# Altium footprint library Connector_Molex.PcbLib: 815 footprints (part 33 of 51)
Each footprint in its own frame and in the unit in brackets; x right, y up, seen from the top. Pads: shape width x height; smd on the part's side, far side on the other; paste and mask are expansions set on the pad; w line width, h text height; cw(c..) or ccw(c..) is an arc to the next point about the centre after c.
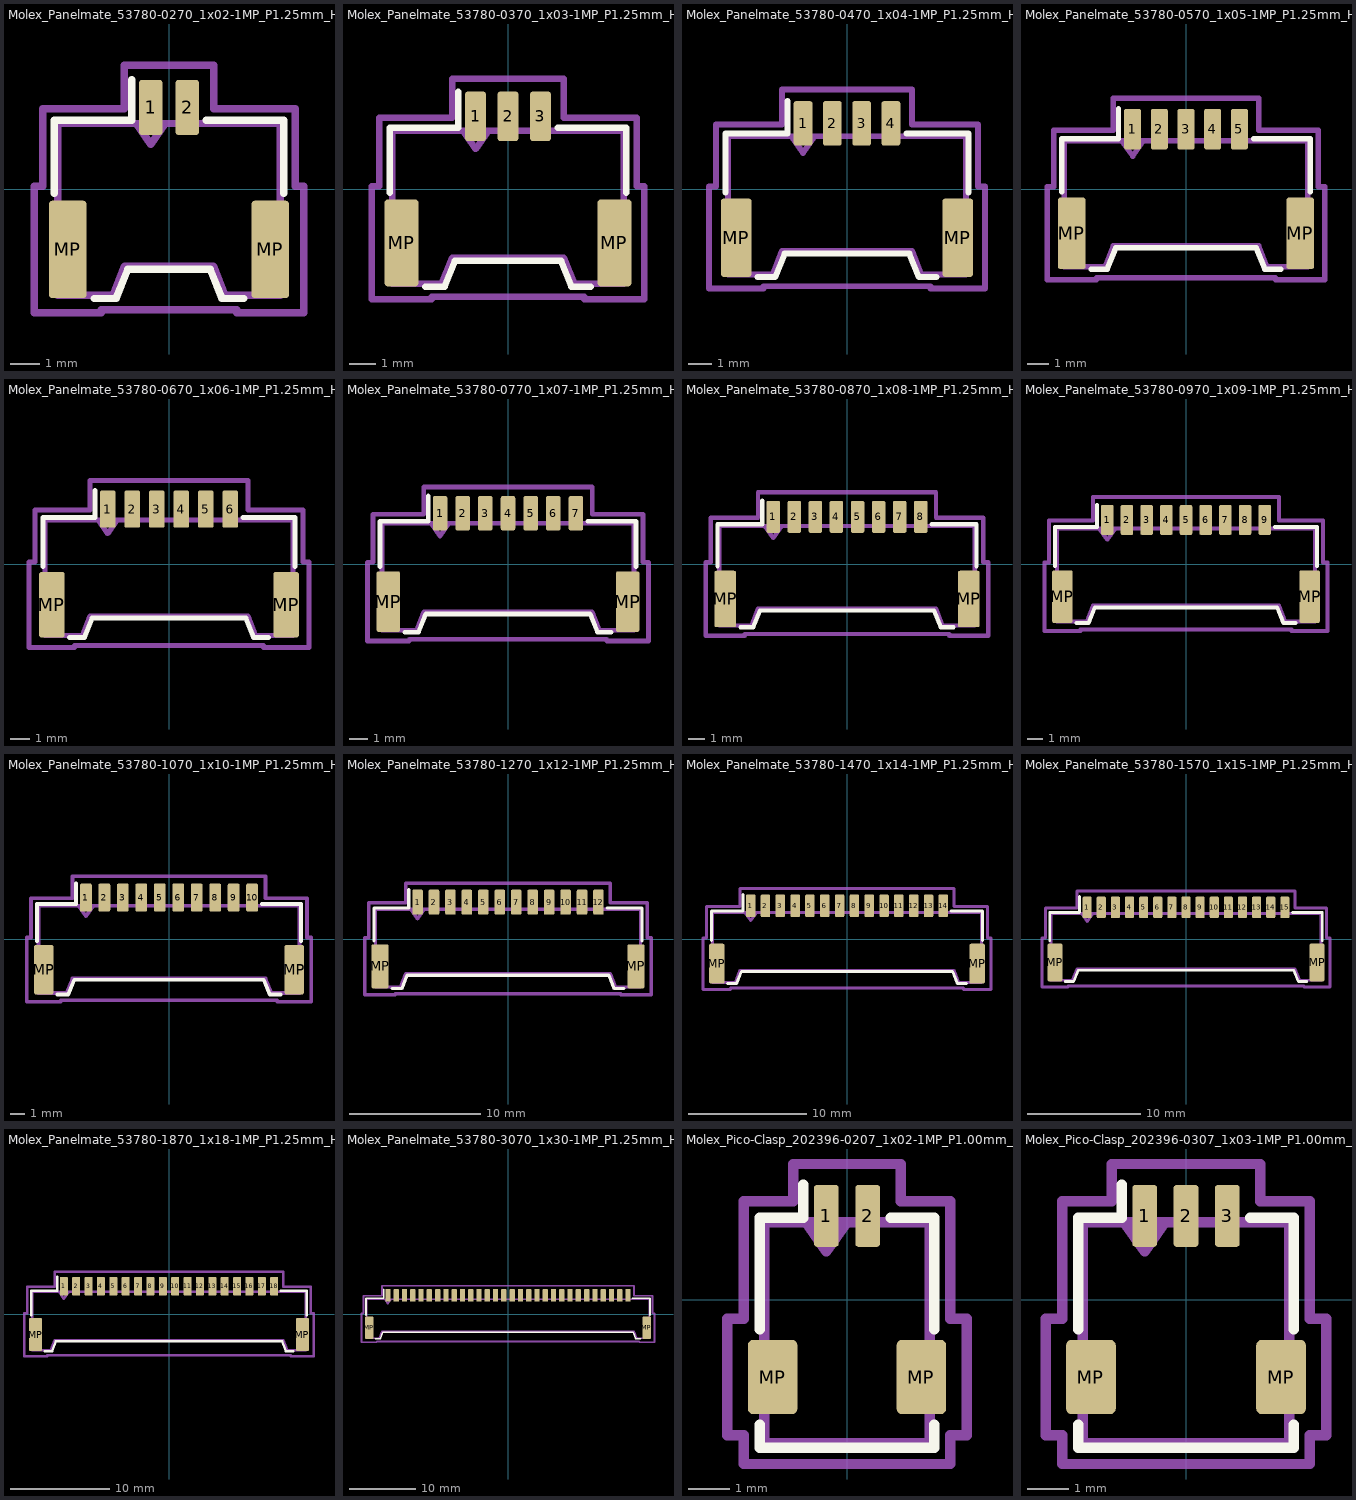
[diagram p32: the footprints below, top view; thin cyan lines are the x and y axes]

## Molex_Panelmate_53780-0270_1x02-1MP_P1.25mm_Horizontal [mm]
pads (4):
  rrect25% 0.8x1.9 smd: 1(-0.625,2.8) 2(0.625,2.8)
  rrect19% 1.3x3.35 smd: MP(-3.475,-2.075) MP(3.475,-2.075)
F.SilkS:
  lines w0.254: -3.935,-0.14 -3.935,2.36 -1.285,2.36 -1.285,3.75 ; -2.565,-3.76 -1.815,-3.76 -1.415,-2.76 1.415,-2.76 1.815,-3.76 2.565,-3.76 ; 1.285,2.36 3.935,2.36 3.935,-0.14
Top Assembly:
  lines w0.254: -1.125,2.25 -0.625,1.543 -0.125,2.25 ; -3.825,-3.65 -1.925,-3.65 -1.525,-2.65 1.525,-2.65 1.925,-3.65 3.825,-3.65 3.825,2.25 -3.825,2.25 -3.825,-3.65
  text "'.Designator'" at -4.047,-1.54 h1
Top Courtyard:
  lines w0.254: -4.63,-4.25 -2.32,-4.25 -2.32,-4.15 2.32,-4.15 2.32,-4.25 4.63,-4.25 4.63,0.1 4.33,0.1 4.33,2.75 1.53,2.75 1.53,4.25 -1.53,4.25 -1.53,2.75 -4.33,2.75 -4.33,0.1 -4.63,0.1 -4.63,-4.25
Top Designator:
  text ".Designator" at -7.618,-0.508 h1.52

## Molex_Panelmate_53780-0370_1x03-1MP_P1.25mm_Horizontal [mm]
pads (5):
  rrect25% 0.8x1.9 smd: 1(-1.25,2.8) 2(0,2.8) 3(1.25,2.8)
  rrect19% 1.3x3.35 smd: MP(-4.1,-2.075) MP(4.1,-2.075)
F.SilkS:
  lines w0.254: -4.56,-0.14 -4.56,2.36 -1.91,2.36 -1.91,3.75 ; -3.19,-3.76 -2.44,-3.76 -2.04,-2.76 2.04,-2.76 2.44,-3.76 3.19,-3.76 ; 1.91,2.36 4.56,2.36 4.56,-0.14
Top Assembly:
  lines w0.254: -1.75,2.25 -1.25,1.543 -0.75,2.25 ; -4.45,-3.65 -2.55,-3.65 -2.15,-2.65 2.15,-2.65 2.55,-3.65 4.45,-3.65 4.45,2.25 -4.45,2.25 -4.45,-3.65
  text "'.Designator'" at -4.047,-1.54 h1
Top Courtyard:
  lines w0.254: -5.25,-4.25 -2.94,-4.25 -2.94,-4.15 2.94,-4.15 2.94,-4.25 5.25,-4.25 5.25,0.1 4.95,0.1 4.95,2.75 2.15,2.75 2.15,4.25 -2.15,4.25 -2.15,2.75 -4.95,2.75 -4.95,0.1 -5.25,0.1 -5.25,-4.25
Top Designator:
  text ".Designator" at -7.618,-0.508 h1.52

## Molex_Panelmate_53780-0470_1x04-1MP_P1.25mm_Horizontal [mm]
pads (6):
  rrect25% 0.8x1.9 smd: 1(-1.875,2.8) 2(-0.625,2.8) 3(0.625,2.8) 4(1.875,2.8)
  rrect19% 1.3x3.35 smd: MP(-4.725,-2.075) MP(4.725,-2.075)
F.SilkS:
  lines w0.254: -5.185,-0.14 -5.185,2.36 -2.535,2.36 -2.535,3.75 ; -3.815,-3.76 -3.065,-3.76 -2.665,-2.76 2.665,-2.76 3.065,-3.76 3.815,-3.76 ; 2.535,2.36 5.185,2.36 5.185,-0.14
Top Assembly:
  lines w0.254: -2.375,2.25 -1.875,1.543 -1.375,2.25 ; -5.075,-3.65 -3.175,-3.65 -2.775,-2.65 2.775,-2.65 3.175,-3.65 5.075,-3.65 5.075,2.25 -5.075,2.25 -5.075,-3.65
  text "'.Designator'" at -4.047,-1.54 h1
Top Courtyard:
  lines w0.254: -5.88,-4.25 -3.57,-4.25 -3.57,-4.15 3.57,-4.15 3.57,-4.25 5.88,-4.25 5.88,0.1 5.58,0.1 5.58,2.75 2.78,2.75 2.78,4.25 -2.78,4.25 -2.78,2.75 -5.58,2.75 -5.58,0.1 -5.88,0.1 -5.88,-4.25
Top Designator:
  text ".Designator" at -7.618,-0.508 h1.52

## Molex_Panelmate_53780-0570_1x05-1MP_P1.25mm_Horizontal [mm]
pads (7):
  rrect25% 0.8x1.9 smd: 1(-2.5,2.8) 2(-1.25,2.8) 3(0,2.8) 4(1.25,2.8) 5(2.5,2.8)
  rrect19% 1.3x3.35 smd: MP(-5.35,-2.075) MP(5.35,-2.075)
F.SilkS:
  lines w0.254: -5.81,-0.14 -5.81,2.36 -3.16,2.36 -3.16,3.75 ; -4.44,-3.76 -3.69,-3.76 -3.29,-2.76 3.29,-2.76 3.69,-3.76 4.44,-3.76 ; 3.16,2.36 5.81,2.36 5.81,-0.14
Top Assembly:
  lines w0.254: -3,2.25 -2.5,1.543 -2,2.25 ; -5.7,-3.65 -3.8,-3.65 -3.4,-2.65 3.4,-2.65 3.8,-3.65 5.7,-3.65 5.7,2.25 -5.7,2.25 -5.7,-3.65
  text "'.Designator'" at -4.047,-1.54 h1
Top Courtyard:
  lines w0.254: -6.5,-4.25 -4.19,-4.25 -4.19,-4.15 4.19,-4.15 4.19,-4.25 6.5,-4.25 6.5,0.1 6.2,0.1 6.2,2.75 3.4,2.75 3.4,4.25 -3.4,4.25 -3.4,2.75 -6.2,2.75 -6.2,0.1 -6.5,0.1 -6.5,-4.25
Top Designator:
  text ".Designator" at -7.618,-0.508 h1.52

## Molex_Panelmate_53780-0670_1x06-1MP_P1.25mm_Horizontal [mm]
pads (8):
  rrect25% 0.8x1.9 smd: 1(-3.125,2.8) 2(-1.875,2.8) 3(-0.625,2.8) 4(0.625,2.8) 5(1.875,2.8) 6(3.125,2.8)
  rrect19% 1.3x3.35 smd: MP(-5.975,-2.075) MP(5.975,-2.075)
F.SilkS:
  lines w0.254: -6.435,-0.14 -6.435,2.36 -3.785,2.36 -3.785,3.75 ; -5.065,-3.76 -4.315,-3.76 -3.915,-2.76 3.915,-2.76 4.315,-3.76 5.065,-3.76 ; 3.785,2.36 6.435,2.36 6.435,-0.14
Top Assembly:
  lines w0.254: -3.625,2.25 -3.125,1.543 -2.625,2.25 ; -6.325,-3.65 -4.425,-3.65 -4.025,-2.65 4.025,-2.65 4.425,-3.65 6.325,-3.65 6.325,2.25 -6.325,2.25 -6.325,-3.65
  text "'.Designator'" at -4.047,-1.54 h1
Top Courtyard:
  lines w0.254: -7.13,-4.25 -4.82,-4.25 -4.82,-4.15 4.82,-4.15 4.82,-4.25 7.13,-4.25 7.13,0.1 6.83,0.1 6.83,2.75 4.03,2.75 4.03,4.25 -4.03,4.25 -4.03,2.75 -6.83,2.75 -6.83,0.1 -7.13,0.1 -7.13,-4.25
Top Designator:
  text ".Designator" at -7.618,-0.508 h1.52

## Molex_Panelmate_53780-0770_1x07-1MP_P1.25mm_Horizontal [mm]
pads (9):
  rrect25% 0.8x1.9 smd: 1(-3.75,2.8) 2(-2.5,2.8) 3(-1.25,2.8) 4(0,2.8) 5(1.25,2.8) 6(2.5,2.8) 7(3.75,2.8)
  rrect19% 1.3x3.35 smd: MP(-6.6,-2.075) MP(6.6,-2.075)
F.SilkS:
  lines w0.254: -7.06,-0.14 -7.06,2.36 -4.41,2.36 -4.41,3.75 ; -5.69,-3.76 -4.94,-3.76 -4.54,-2.76 4.54,-2.76 4.94,-3.76 5.69,-3.76 ; 4.41,2.36 7.06,2.36 7.06,-0.14
Top Assembly:
  lines w0.254: -4.25,2.25 -3.75,1.543 -3.25,2.25 ; -6.95,-3.65 -5.05,-3.65 -4.65,-2.65 4.65,-2.65 5.05,-3.65 6.95,-3.65 6.95,2.25 -6.95,2.25 -6.95,-3.65
  text "'.Designator'" at -4.047,-1.54 h1
Top Courtyard:
  lines w0.254: -7.75,-4.25 -5.44,-4.25 -5.44,-4.15 5.44,-4.15 5.44,-4.25 7.75,-4.25 7.75,0.1 7.45,0.1 7.45,2.75 4.65,2.75 4.65,4.25 -4.65,4.25 -4.65,2.75 -7.45,2.75 -7.45,0.1 -7.75,0.1 -7.75,-4.25
Top Designator:
  text ".Designator" at -7.618,-0.508 h1.52

## Molex_Panelmate_53780-0870_1x08-1MP_P1.25mm_Horizontal [mm]
pads (10):
  rrect25% 0.8x1.9 smd: 1(-4.375,2.8) 2(-3.125,2.8) 3(-1.875,2.8) 4(-0.625,2.8) 5(0.625,2.8) 6(1.875,2.8) 7(3.125,2.8) 8(4.375,2.8)
  rrect19% 1.3x3.35 smd: MP(-7.225,-2.075) MP(7.225,-2.075)
F.SilkS:
  lines w0.254: -7.685,-0.14 -7.685,2.36 -5.035,2.36 -5.035,3.75 ; -6.315,-3.76 -5.565,-3.76 -5.165,-2.76 5.165,-2.76 5.565,-3.76 6.315,-3.76 ; 5.035,2.36 7.685,2.36 7.685,-0.14
Top Assembly:
  lines w0.254: -4.875,2.25 -4.375,1.543 -3.875,2.25 ; -7.575,-3.65 -5.675,-3.65 -5.275,-2.65 5.275,-2.65 5.675,-3.65 7.575,-3.65 7.575,2.25 -7.575,2.25 -7.575,-3.65
  text "'.Designator'" at -4.047,-1.54 h1
Top Courtyard:
  lines w0.254: -8.38,-4.25 -6.07,-4.25 -6.07,-4.15 6.07,-4.15 6.07,-4.25 8.38,-4.25 8.38,0.1 8.08,0.1 8.08,2.75 5.28,2.75 5.28,4.25 -5.28,4.25 -5.28,2.75 -8.08,2.75 -8.08,0.1 -8.38,0.1 -8.38,-4.25
Top Designator:
  text ".Designator" at -7.618,-0.508 h1.52

## Molex_Panelmate_53780-0970_1x09-1MP_P1.25mm_Horizontal [mm]
pads (11):
  rrect25% 0.8x1.9 smd: 1(-5,2.8) 2(-3.75,2.8) 3(-2.5,2.8) 4(-1.25,2.8) 5(0,2.8) 6(1.25,2.8) 7(2.5,2.8) 8(3.75,2.8) 9(5,2.8)
  rrect19% 1.3x3.35 smd: MP(-7.85,-2.075) MP(7.85,-2.075)
F.SilkS:
  lines w0.254: -8.31,-0.14 -8.31,2.36 -5.66,2.36 -5.66,3.75 ; -6.94,-3.76 -6.19,-3.76 -5.79,-2.76 5.79,-2.76 6.19,-3.76 6.94,-3.76 ; 5.66,2.36 8.31,2.36 8.31,-0.14
Top Assembly:
  lines w0.254: -5.5,2.25 -5,1.543 -4.5,2.25 ; -8.2,-3.65 -6.3,-3.65 -5.9,-2.65 5.9,-2.65 6.3,-3.65 8.2,-3.65 8.2,2.25 -8.2,2.25 -8.2,-3.65
  text "'.Designator'" at -4.047,-1.54 h1
Top Courtyard:
  lines w0.254: -9,-4.25 -6.69,-4.25 -6.69,-4.15 6.69,-4.15 6.69,-4.25 9,-4.25 9,0.1 8.7,0.1 8.7,2.75 5.9,2.75 5.9,4.25 -5.9,4.25 -5.9,2.75 -8.7,2.75 -8.7,0.1 -9,0.1 -9,-4.25
Top Designator:
  text ".Designator" at -7.618,-0.508 h1.52

## Molex_Panelmate_53780-1070_1x10-1MP_P1.25mm_Horizontal [mm]
pads (12):
  rrect25% 0.8x1.9 smd: 1(-5.625,2.8) 2(-4.375,2.8) 3(-3.125,2.8) 4(-1.875,2.8) 5(-0.625,2.8) 6(0.625,2.8) 7(1.875,2.8) 8(3.125,2.8) 9(4.375,2.8) 10(5.625,2.8)
  rrect19% 1.3x3.35 smd: MP(-8.475,-2.075) MP(8.475,-2.075)
F.SilkS:
  lines w0.254: -8.935,-0.14 -8.935,2.36 -6.285,2.36 -6.285,3.75 ; -7.565,-3.76 -6.815,-3.76 -6.415,-2.76 6.415,-2.76 6.815,-3.76 7.565,-3.76 ; 6.285,2.36 8.935,2.36 8.935,-0.14
Top Assembly:
  lines w0.254: -6.125,2.25 -5.625,1.543 -5.125,2.25 ; -8.825,-3.65 -6.925,-3.65 -6.525,-2.65 6.525,-2.65 6.925,-3.65 8.825,-3.65 8.825,2.25 -8.825,2.25 -8.825,-3.65
  text "'.Designator'" at -4.047,-1.54 h1
Top Courtyard:
  lines w0.254: -9.63,-4.25 -7.32,-4.25 -7.32,-4.15 7.32,-4.15 7.32,-4.25 9.63,-4.25 9.63,0.1 9.33,0.1 9.33,2.75 6.53,2.75 6.53,4.25 -6.53,4.25 -6.53,2.75 -9.33,2.75 -9.33,0.1 -9.63,0.1 -9.63,-4.25
Top Designator:
  text ".Designator" at -7.618,-0.508 h1.52

## Molex_Panelmate_53780-1270_1x12-1MP_P1.25mm_Horizontal [mm]
pads (14):
  rrect25% 0.8x1.9 smd: 1(-6.875,2.8) 2(-5.625,2.8) 3(-4.375,2.8) 4(-3.125,2.8) 5(-1.875,2.8) 6(-0.625,2.8) 7(0.625,2.8) 8(1.875,2.8) 9(3.125,2.8) 10(4.375,2.8) 11(5.625,2.8) 12(6.875,2.8)
  rrect19% 1.3x3.35 smd: MP(-9.725,-2.075) MP(9.725,-2.075)
F.SilkS:
  lines w0.254: -10.185,-0.14 -10.185,2.36 -7.535,2.36 -7.535,3.75 ; -8.815,-3.76 -8.065,-3.76 -7.665,-2.76 7.665,-2.76 8.065,-3.76 8.815,-3.76 ; 7.535,2.36 10.185,2.36 10.185,-0.14
Top Assembly:
  lines w0.254: -7.375,2.25 -6.875,1.543 -6.375,2.25 ; -10.075,-3.65 -8.175,-3.65 -7.775,-2.65 7.775,-2.65 8.175,-3.65 10.075,-3.65 10.075,2.25 -10.075,2.25 -10.075,-3.65
  text "'.Designator'" at -4.047,-1.54 h1
Top Courtyard:
  lines w0.254: -10.88,-4.25 -8.57,-4.25 -8.57,-4.15 8.57,-4.15 8.57,-4.25 10.88,-4.25 10.88,0.1 10.58,0.1 10.58,2.75 7.78,2.75 7.78,4.25 -7.78,4.25 -7.78,2.75 -10.58,2.75 -10.58,0.1 -10.88,0.1 -10.88,-4.25
Top Designator:
  text ".Designator" at -7.618,-0.508 h1.52

## Molex_Panelmate_53780-1470_1x14-1MP_P1.25mm_Horizontal [mm]
pads (16):
  rrect25% 0.8x1.9 smd: 1(-8.125,2.8) 2(-6.875,2.8) 3(-5.625,2.8) 4(-4.375,2.8) 5(-3.125,2.8) 6(-1.875,2.8) 7(-0.625,2.8) 8(0.625,2.8) 9(1.875,2.8) 10(3.125,2.8) 11(4.375,2.8) 12(5.625,2.8) 13(6.875,2.8) 14(8.125,2.8)
  rrect19% 1.3x3.35 smd: MP(-10.975,-2.075) MP(10.975,-2.075)
F.SilkS:
  lines w0.254: -11.435,-0.14 -11.435,2.36 -8.785,2.36 -8.785,3.75 ; -10.065,-3.76 -9.315,-3.76 -8.915,-2.76 8.915,-2.76 9.315,-3.76 10.065,-3.76 ; 8.785,2.36 11.435,2.36 11.435,-0.14
Top Assembly:
  lines w0.254: -8.625,2.25 -8.125,1.543 -7.625,2.25 ; -11.325,-3.65 -9.425,-3.65 -9.025,-2.65 9.025,-2.65 9.425,-3.65 11.325,-3.65 11.325,2.25 -11.325,2.25 -11.325,-3.65
  text "'.Designator'" at -4.047,-1.54 h1
Top Courtyard:
  lines w0.254: -12.13,-4.25 -9.82,-4.25 -9.82,-4.15 9.82,-4.15 9.82,-4.25 12.13,-4.25 12.13,0.1 11.83,0.1 11.83,2.75 9.03,2.75 9.03,4.25 -9.03,4.25 -9.03,2.75 -11.83,2.75 -11.83,0.1 -12.13,0.1 -12.13,-4.25
Top Designator:
  text ".Designator" at -7.618,-0.508 h1.52

## Molex_Panelmate_53780-1570_1x15-1MP_P1.25mm_Horizontal [mm]
pads (17):
  rrect25% 0.8x1.9 smd: 1(-8.75,2.8) 2(-7.5,2.8) 3(-6.25,2.8) 4(-5,2.8) 5(-3.75,2.8) 6(-2.5,2.8) 7(-1.25,2.8) 8(0,2.8) 9(1.25,2.8) 10(2.5,2.8) 11(3.75,2.8) 12(5,2.8) 13(6.25,2.8) 14(7.5,2.8) 15(8.75,2.8)
  rrect19% 1.3x3.35 smd: MP(-11.6,-2.075) MP(11.6,-2.075)
F.SilkS:
  lines w0.254: -12.06,-0.14 -12.06,2.36 -9.41,2.36 -9.41,3.75 ; -10.69,-3.76 -9.94,-3.76 -9.54,-2.76 9.54,-2.76 9.94,-3.76 10.69,-3.76 ; 9.41,2.36 12.06,2.36 12.06,-0.14
Top Assembly:
  lines w0.254: -9.25,2.25 -8.75,1.543 -8.25,2.25 ; -11.95,-3.65 -10.05,-3.65 -9.65,-2.65 9.65,-2.65 10.05,-3.65 11.95,-3.65 11.95,2.25 -11.95,2.25 -11.95,-3.65
  text "'.Designator'" at -4.047,-1.54 h1
Top Courtyard:
  lines w0.254: -12.75,-4.25 -10.45,-4.25 -10.45,-4.15 10.45,-4.15 10.45,-4.25 12.75,-4.25 12.75,0.1 12.45,0.1 12.45,2.75 9.65,2.75 9.65,4.25 -9.65,4.25 -9.65,2.75 -12.45,2.75 -12.45,0.1 -12.75,0.1 -12.75,-4.25
Top Designator:
  text ".Designator" at -7.618,-0.508 h1.52

## Molex_Panelmate_53780-1870_1x18-1MP_P1.25mm_Horizontal [mm]
pads (20):
  rrect25% 0.8x1.9 smd: 1(-10.625,2.8) 2(-9.375,2.8) 3(-8.125,2.8) 4(-6.875,2.8) 5(-5.625,2.8) 6(-4.375,2.8) 7(-3.125,2.8) 8(-1.875,2.8) 9(-0.625,2.8) 10(0.625,2.8) 11(1.875,2.8) 12(3.125,2.8) 13(4.375,2.8) 14(5.625,2.8) 15(6.875,2.8) 16(8.125,2.8) 17(9.375,2.8) 18(10.625,2.8)
  rrect19% 1.3x3.35 smd: MP(-13.475,-2.075) MP(13.475,-2.075)
F.SilkS:
  lines w0.254: -13.935,-0.14 -13.935,2.36 -11.285,2.36 -11.285,3.75 ; -12.565,-3.76 -11.815,-3.76 -11.415,-2.76 11.415,-2.76 11.815,-3.76 12.565,-3.76 ; 11.285,2.36 13.935,2.36 13.935,-0.14
Top Assembly:
  lines w0.254: -11.125,2.25 -10.625,1.543 -10.125,2.25 ; -13.825,-3.65 -11.925,-3.65 -11.525,-2.65 11.525,-2.65 11.925,-3.65 13.825,-3.65 13.825,2.25 -13.825,2.25 -13.825,-3.65
  text "'.Designator'" at -4.047,-1.54 h1
Top Courtyard:
  lines w0.254: -14.63,-4.25 -12.32,-4.25 -12.32,-4.15 12.32,-4.15 12.32,-4.25 14.63,-4.25 14.63,0.1 14.33,0.1 14.33,2.75 11.53,2.75 11.53,4.25 -11.53,4.25 -11.53,2.75 -14.33,2.75 -14.33,0.1 -14.63,0.1 -14.63,-4.25
Top Designator:
  text ".Designator" at -7.618,-0.508 h1.52

## Molex_Panelmate_53780-3070_1x30-1MP_P1.25mm_Horizontal [mm]
pads (32):
  rrect25% 0.8x1.9 smd: 1(-18.125,2.8) 2(-16.875,2.8) 3(-15.625,2.8) 4(-14.375,2.8) 5(-13.125,2.8) 6(-11.875,2.8) 7(-10.625,2.8) 8(-9.375,2.8) 9(-8.125,2.8) 10(-6.875,2.8) 11(-5.625,2.8) 12(-4.375,2.8) 13(-3.125,2.8) 14(-1.875,2.8) 15(-0.625,2.8) 16(0.625,2.8) 17(1.875,2.8) 18(3.125,2.8) 19(4.375,2.8) 20(5.625,2.8) 21(6.875,2.8) 22(8.125,2.8) 23(9.375,2.8) 24(10.625,2.8) 25(11.875,2.8) 26(13.125,2.8) 27(14.375,2.8) 28(15.625,2.8) 29(16.875,2.8) 30(18.125,2.8)
  rrect19% 1.3x3.35 smd: MP(-20.975,-2.075) MP(20.975,-2.075)
F.SilkS:
  lines w0.254: -21.435,-0.14 -21.435,2.36 -18.785,2.36 -18.785,3.75 ; -20.065,-3.76 -19.315,-3.76 -18.915,-2.76 18.915,-2.76 19.315,-3.76 20.065,-3.76 ; 18.785,2.36 21.435,2.36 21.435,-0.14
Top Assembly:
  lines w0.254: -18.625,2.25 -18.125,1.543 -17.625,2.25 ; -21.325,-3.65 -19.425,-3.65 -19.025,-2.65 19.025,-2.65 19.425,-3.65 21.325,-3.65 21.325,2.25 -21.325,2.25 -21.325,-3.65
  text "'.Designator'" at -4.047,-1.54 h1
Top Courtyard:
  lines w0.254: -22.13,-4.25 -19.82,-4.25 -19.82,-4.15 19.82,-4.15 19.82,-4.25 22.13,-4.25 22.13,0.1 21.83,0.1 21.83,2.75 19.03,2.75 19.03,4.25 -19.03,4.25 -19.03,2.75 -21.83,2.75 -21.83,0.1 -22.13,0.1 -22.13,-4.25
Top Designator:
  text ".Designator" at -7.618,-0.508 h1.52

## Molex_Pico-Clasp_202396-0207_1x02-1MP_P1.00mm_Horizontal [mm]
pads (4):
  rrect25% 0.6x1.5 smd: 1(-0.5,2.025) 2(0.5,2.025)
  rrect21% 1.2x1.8 smd: MP(-1.8,-1.875) MP(1.8,-1.875)
F.SilkS:
  lines w0.254: -2.11,-3.035 -2.11,-3.585 2.11,-3.585 2.11,-3.035 ; -2.11,-0.715 -2.11,1.985 -1.06,1.985 -1.06,2.775 ; 1.06,1.985 2.11,1.985 2.11,-0.715
Top Assembly:
  lines w0.254: -1,1.875 -0.5,1.168 0,1.875 ; -2,-3.475 2,-3.475 2,1.875 -2,1.875 -2,-3.475
  text "'.Designator'" at -4.047,-3.61 h1
Top Courtyard:
  lines w0.254: -2.9,-3.28 -2.5,-3.28 -2.5,-3.98 2.5,-3.98 2.5,-3.28 2.9,-3.28 2.9,-0.47 2.5,-0.47 2.5,2.38 1.3,2.38 1.3,3.28 -1.3,3.28 -1.3,2.38 -2.5,2.38 -2.5,-0.47 -2.9,-0.47 -2.9,-3.28
Top Designator:
  text ".Designator" at -7.768,-0.858 h1.52

## Molex_Pico-Clasp_202396-0307_1x03-1MP_P1.00mm_Horizontal [mm]
pads (5):
  rrect25% 0.6x1.5 smd: 1(-1,2.025) 2(0,2.025) 3(1,2.025)
  rrect21% 1.2x1.8 smd: MP(-2.3,-1.875) MP(2.3,-1.875)
F.SilkS:
  lines w0.254: -2.61,-3.035 -2.61,-3.585 2.61,-3.585 2.61,-3.035 ; -2.61,-0.715 -2.61,1.985 -1.56,1.985 -1.56,2.775 ; 1.56,1.985 2.61,1.985 2.61,-0.715
Top Assembly:
  lines w0.254: -1.5,1.875 -1,1.168 -0.5,1.875 ; -2.5,-3.475 2.5,-3.475 2.5,1.875 -2.5,1.875 -2.5,-3.475
  text "'.Designator'" at -4.047,-3.61 h1
Top Courtyard:
  lines w0.254: -3.4,-3.28 -3,-3.28 -3,-3.98 3,-3.98 3,-3.28 3.4,-3.28 3.4,-0.47 3,-0.47 3,2.38 1.8,2.38 1.8,3.28 -1.8,3.28 -1.8,2.38 -3,2.38 -3,-0.47 -3.4,-0.47 -3.4,-3.28
Top Designator:
  text ".Designator" at -7.768,-0.858 h1.52